# Altium footprint library Ale.PcbLib: 181 footprints (part 7 of 12)
Each footprint in its own frame and in the unit in brackets; x right, y up, seen from the top. Pads: shape width x height; smd on the part's side, far side on the other; paste and mask are expansions set on the pad; w line width, h text height; cw(c..) or ccw(c..) is an arc to the next point about the centre after c.
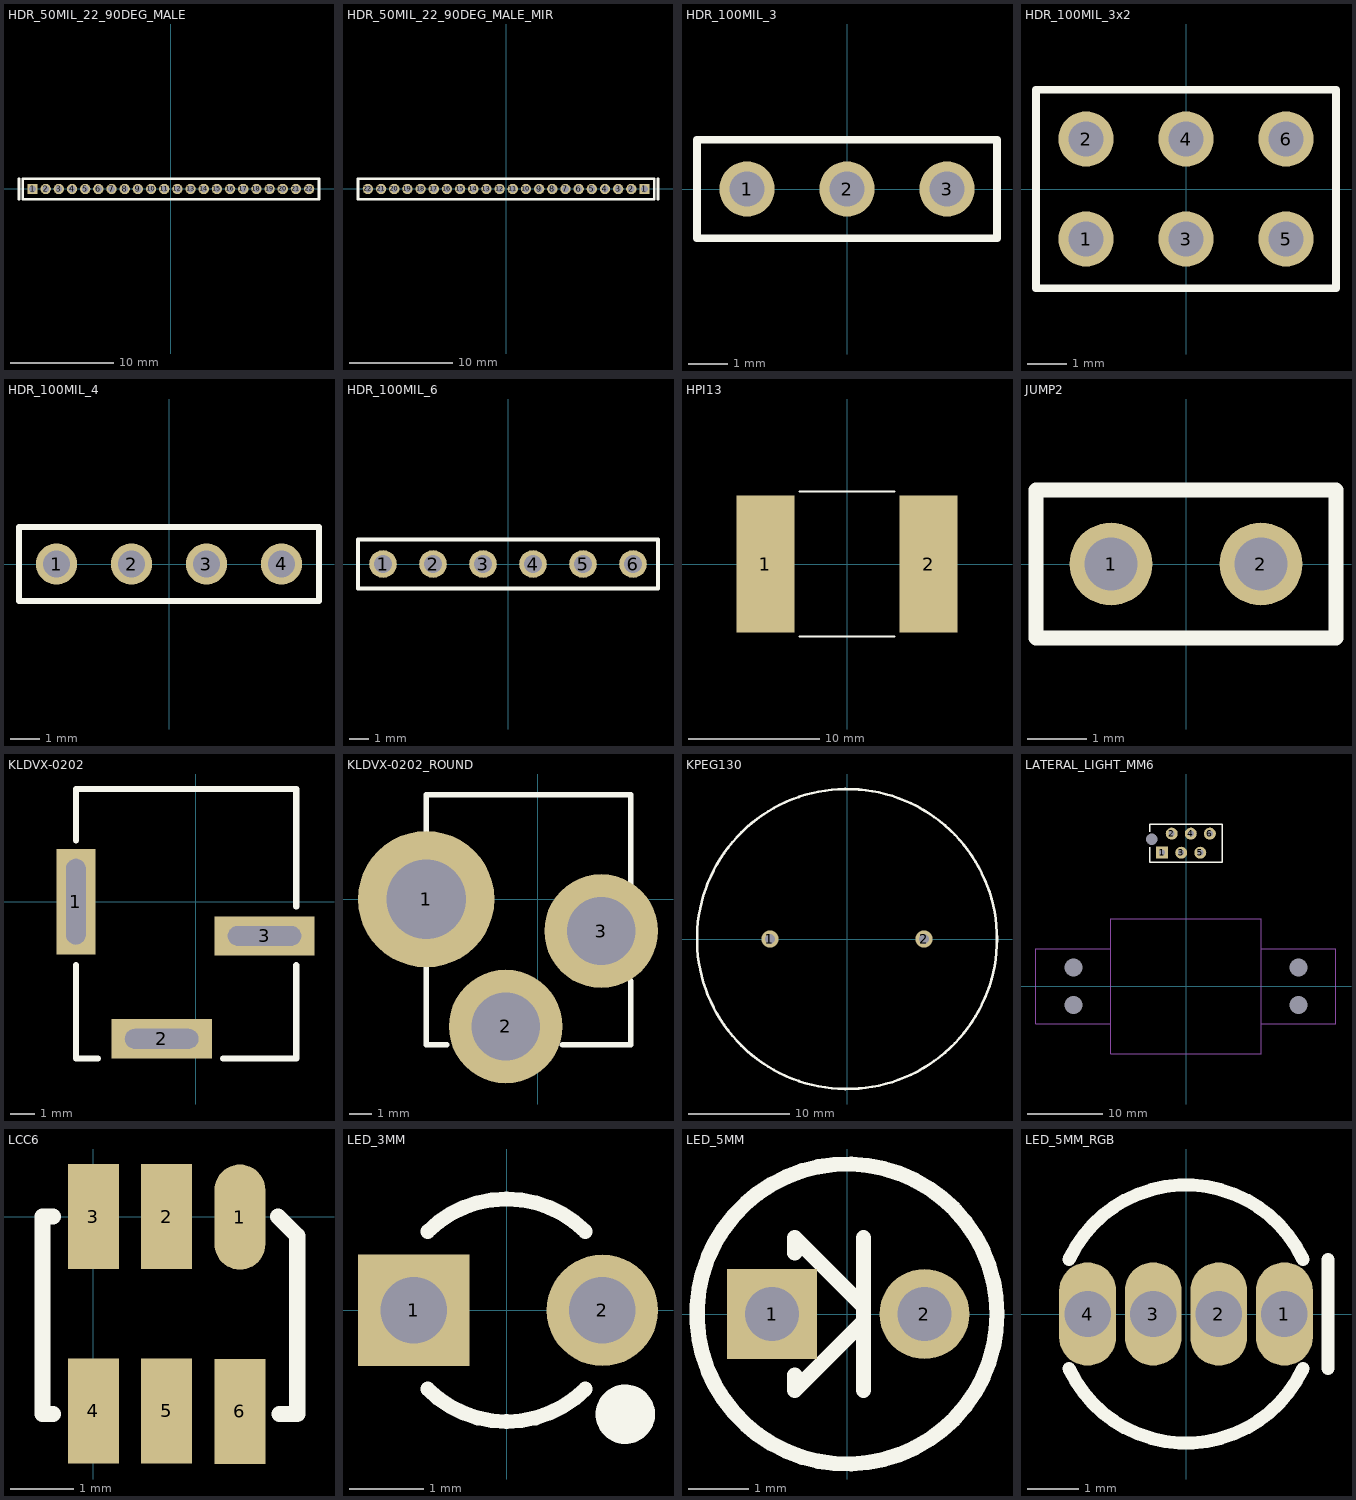
[diagram p6: the footprints below, top view; thin cyan lines are the x and y axes]

## HDR_50MIL_22_90DEG_MALE [mm] "1.27 mm pitch header"
height 2.2
pads (22):
  rect 1x1 hole 0.65: 1(-13.335,0)
  round 1 hole 0.65: 2(-12.065,0) 3(-10.795,0) 4(-9.525,0) 5(-8.255,0) 6(-6.985,0) 7(-5.715,0) 8(-4.445,0) 9(-3.175,0) 10(-1.905,0) 11(-0.635,0) 12(0.635,0) 13(1.905,0) 14(3.175,0) 15(4.445,0) 16(5.715,0) 17(6.985,0) 18(8.255,0) 19(9.525,0) 20(10.795,0) 21(12.065,0) 22(13.335,0)
Top Overlay:
  lines w0.25: -14.64,-1 -14.64,1 ; -14.29,-1 14.29,-1 14.29,1 -14.29,1 -14.29,-1
3D body: height 1.3, standoff 0.89, extent -13.54,3.4 -13.13,6.4
3D body: height 1.3, standoff 0.89, extent -12.27,3.4 -11.86,6.4
3D body: height 1.3, standoff 0.89, extent -11,3.4 -10.59,6.4
3D body: height 1.3, standoff 0.89, extent -9.73,3.4 -9.32,6.4
3D body: height 1.3, standoff 0.89, extent -8.46,3.4 -8.05,6.4
3D body: height 1.3, standoff 0.89, extent -7.19,3.4 -6.78,6.4
3D body: height 1.3, standoff 0.89, extent -5.92,3.4 -5.51,6.4
3D body: height 1.3, standoff 0.89, extent -4.65,3.4 -4.24,6.4
3D body: height 1.3, standoff 0.89, extent -3.38,3.4 -2.97,6.4
3D body: height 1.3, standoff 0.89, extent -2.11,3.4 -1.7,6.4
3D body: height 1.3, standoff 0.89, extent -0.84,3.4 -0.43,6.4
3D body: height 1.3, standoff 0.89, extent 13.13,3.4 13.54,6.4
3D body: height 1.3, standoff 0.89, extent 11.86,3.4 12.27,6.4
3D body: height 1.3, standoff 0.89, extent 10.59,3.4 11,6.4
3D body: height 1.3, standoff 0.89, extent 8.05,3.4 8.46,6.4
3D body: height 1.3, standoff 0.89, extent 9.32,3.4 9.73,6.4
3D body: height 1.3, standoff 0.89, extent 6.78,3.4 7.19,6.4
3D body: height 1.3, standoff 0.89, extent 5.51,3.4 5.92,6.4
3D body: height 1.3, standoff 0.89, extent 4.24,3.4 4.65,6.4
3D body: height 1.3, standoff 0.89, extent 2.97,3.4 3.38,6.4
3D body: height 1.3, standoff 0.89, extent 1.7,3.4 2.11,6.4
3D body: height 1.3, standoff 0.89, extent 0.43,3.4 0.84,6.4
3D body: height 2.2, standoff 0, extent -14.3,1.2 14.3,3.4

## HDR_50MIL_22_90DEG_MALE_MIR [mm] "1.27 mm pitch header"
height 2.2
pads (22):
  rect 1x1 hole 0.65: 1(13.335,0)
  round 1 hole 0.65: 2(12.065,0) 3(10.795,0) 4(9.525,0) 5(8.255,0) 6(6.985,0) 7(5.715,0) 8(4.445,0) 9(3.175,0) 10(1.905,0) 11(0.635,0) 12(-0.635,0) 13(-1.905,0) 14(-3.175,0) 15(-4.445,0) 16(-5.715,0) 17(-6.985,0) 18(-8.255,0) 19(-9.525,0) 20(-10.795,0) 21(-12.065,0) 22(-13.335,0)
Top Overlay:
  lines w0.25: 14.64,-1 14.64,1 ; -14.29,-1 14.29,-1 14.29,1 -14.29,1 -14.29,-1
3D body: height 1.3, standoff 0.89, extent -13.54,3.4 -13.13,6.4
3D body: height 1.3, standoff 0.89, extent -12.27,3.4 -11.86,6.4
3D body: height 1.3, standoff 0.89, extent -11,3.4 -10.59,6.4
3D body: height 1.3, standoff 0.89, extent -9.73,3.4 -9.32,6.4
3D body: height 1.3, standoff 0.89, extent -8.46,3.4 -8.05,6.4
3D body: height 1.3, standoff 0.89, extent -7.19,3.4 -6.78,6.4
3D body: height 1.3, standoff 0.89, extent -5.92,3.4 -5.51,6.4
3D body: height 1.3, standoff 0.89, extent -4.65,3.4 -4.24,6.4
3D body: height 1.3, standoff 0.89, extent -3.38,3.4 -2.97,6.4
3D body: height 1.3, standoff 0.89, extent -2.11,3.4 -1.7,6.4
3D body: height 1.3, standoff 0.89, extent -0.84,3.4 -0.43,6.4
3D body: height 1.3, standoff 0.89, extent 13.13,3.4 13.54,6.4
3D body: height 1.3, standoff 0.89, extent 11.86,3.4 12.27,6.4
3D body: height 1.3, standoff 0.89, extent 10.59,3.4 11,6.4
3D body: height 1.3, standoff 0.89, extent 8.05,3.4 8.46,6.4
3D body: height 1.3, standoff 0.89, extent 9.32,3.4 9.73,6.4
3D body: height 1.3, standoff 0.89, extent 6.78,3.4 7.19,6.4
3D body: height 1.3, standoff 0.89, extent 5.51,3.4 5.92,6.4
3D body: height 1.3, standoff 0.89, extent 4.24,3.4 4.65,6.4
3D body: height 1.3, standoff 0.89, extent 2.97,3.4 3.38,6.4
3D body: height 1.3, standoff 0.89, extent 1.7,3.4 2.11,6.4
3D body: height 1.3, standoff 0.89, extent 0.43,3.4 0.84,6.4
3D body: height 2.2, standoff 0, extent -14.3,1.2 14.3,3.4

## HDR_100MIL_3 [mm] "2.54 mm pitch header, 3-pin"
height 8.6
pads (3):
  round 1.4 hole 0.9: 1(-2.54,0) 2(0,0) 3(2.54,0)
Top Overlay:
  lines w0.2: -3.81,-1.25 -3.81,1.25 3.81,1.25 3.81,-1.25 -3.81,-1.25
3D body: height 8.6, standoff 0, extent -0.317,-0.317 0.317,0.317
3D body: height 8.6, standoff 0, extent -2.857,-0.317 -2.223,0.317
3D body: height 2.8, standoff 0, extent -3.81,-1.249 3.81,1.249
3D body: height 8.6, standoff 0, extent 2.223,-0.317 2.857,0.317

## HDR_100MIL_3x2 [mm] "2.54 mm pitch header, 6-pin"
height 8.6
pads (6):
  round 1.4 hole 0.9: 1(-2.54,-1.27) 2(-2.54,1.27) 3(0,-1.27) 4(0,1.27) 5(2.54,-1.27) 6(2.54,1.27)
Top Overlay:
  lines w0.2: -3.81,-2.52 -3.81,2.52 3.81,2.52 3.81,-2.52 -3.81,-2.52
3D body: height 8.6, standoff 0, extent -0.317,0.953 0.317,1.587
3D body: height 8.6, standoff 0, extent -2.857,0.953 -2.223,1.587
3D body: height 8.6, standoff 0, extent 2.223,0.953 2.857,1.587
3D body: height 8.6, standoff 0, extent 2.223,-1.587 2.857,-0.953
3D body: height 8.6, standoff 0, extent -2.857,-1.587 -2.223,-0.953
3D body: height 8.6, standoff 0, extent -0.317,-1.587 0.317,-0.953
3D body: height 2.8, standoff 0, extent -3.81,-2.5 3.81,2.5

## HDR_100MIL_4 [mm] "2.54 mm pitch header, 4-pin"
height 8.6
pads (4):
  round 1.4 hole 0.9: 1(-3.81,0) 2(-1.27,0) 3(1.27,0) 4(3.81,0)
Top Overlay:
  lines w0.2: -5.08,-1.25 -5.08,1.25 5.08,1.25 5.08,-1.25 -5.08,-1.25
3D body: height 8.6, standoff 0, extent 3.493,-0.317 4.127,0.317
3D body: height 8.6, standoff 0, extent -1.587,-0.317 -0.953,0.317
3D body: height 8.6, standoff 0, extent -4.127,-0.317 -3.493,0.317
3D body: height 2.8, standoff 0, extent -5.08,-1.249 5.08,1.249
3D body: height 8.6, standoff 0, extent 0.953,-0.317 1.587,0.317

## HDR_100MIL_6 [mm] "2.54 mm pitch header, 6-pin"
height 8.6
pads (6):
  round 1.4 hole 0.9: 1(-6.35,0) 2(-3.81,0) 3(-1.27,0) 4(1.27,0) 5(3.81,0) 6(6.35,0)
Top Overlay:
  lines w0.2: -7.62,-1.25 -7.62,1.25 7.62,1.25 7.62,-1.25 -7.62,-1.25
3D body: height 8.6, standoff 0, extent 6.033,-0.317 6.667,0.317
3D body: height 8.6, standoff 0, extent 3.493,-0.317 4.127,0.317
3D body: height 8.6, standoff 0, extent -4.127,-0.317 -3.493,0.317
3D body: height 8.6, standoff 0, extent -6.667,-0.317 -6.033,0.317
3D body: height 2.8, standoff 0, extent -7.62,-1.249 7.62,1.249
3D body: height 8.6, standoff 0, extent 0.953,-0.317 1.587,0.317
3D body: height 8.6, standoff 0, extent -1.587,-0.317 -0.953,0.317

## HPI13 [mm] "Epcos HPI 13 Inductor Series"
height 5.95
pads (2):
  rect 4.4x10.4 smd: 1(-6.2,0) 2(6.2,0)
Top Overlay:
  lines w0.15: -3.6,-5.5 3.6,-5.5 ; -3.6,5.5 3.6,5.5
3D body: height 4.95, standoff 0, extent -6.55,-5.5 6.55,5.5

## JUMP2 [mm] "Jumper, 2.54 mm pitch"
height 8.6
pads (2):
  round 1.4 hole 0.9: 1(-1.27,0) 2(1.27,0)
Top Overlay:
  lines w0.254: -2.54,-1.25 2.54,-1.25 2.54,1.25 -2.54,1.25 -2.54,-1.25
3D body: height 8.6, standoff 0, extent -1.587,-0.317 -0.953,0.317
3D body: height 8.6, standoff 0, extent 0.953,-0.317 1.587,0.317
3D body: height 2.8, standoff 0, extent -2.539,-1.249 2.539,1.249

## KLDVX-0202 [mm] "Power jack, vertical orientation"
height 13.4
pads (3):
  rect 1.6x4.3 hole 0.8 slot 3.5 at 90 deg: 1(-4.9,0)
  rect 4.1x1.6 hole 0.8 slot 3 at 0 deg: 2(-1.4,-5.6) 3(2.8,-1.4)
Top Overlay:
  lines w0.254: -4.9,-2.6 -4.9,-6.4 -4,-6.4 ; -4.9,2.5 -4.9,4.6 4.1,4.6 4.1,-0.2 ; 1.1,-6.4 4.1,-6.4 4.1,-2.6
3D body: height 13.4, standoff 0, extent -4.899,-6.399 4.099,4.599

## KLDVX-0202_ROUND [mm] "Power jack, vertical orientation, round holes only"
height 13.4
pads (3):
  round 6 hole 3.5: 1(-4.9,0)
  round 5 hole 3: 2(-1.4,-5.6) 3(2.8,-1.4)
Top Overlay:
  lines w0.254: -4.9,-2.6 -4.9,-6.4 -4,-6.4 ; -4.9,2.5 -4.9,4.6 4.1,4.6 4.1,-0.2 ; 1.1,-6.4 4.1,-6.4 4.1,-3.6
3D body: height 13.4, standoff 0, extent -4.899,-6.399 4.099,4.599

## KPEG130 [mm] "Kingstate KPEG130 piezo"
height 7.5
pads (2):
  round 1.7 hole 1: 1(-7.6,0) 2(7.6,0)
Top Overlay:
  circle w0.254: c0,0 r14.8
3D body: height 7.5, standoff 0, extent -14.799,-14.799 14.799,14.799

## LATERAL_LIGHT_MM6 [mm] "MicroMatch 6 and mechanical fixation for ant lateral light boards"
height 4.1
pads (11):
  round 0 hole 2.4: 0(-15,-2.5) 0(-15,2.5) 0(15,-2.5) 0(15,2.5)
  round 0 hole 1.5: 0(-4.575,19.63)
  rect 1.6x1.6 hole 0.8: 1(-3.175,17.83)
  round 1.6 hole 0.8: 2(-1.905,20.37) 3(-0.635,17.83) 4(0.635,20.37) 5(1.905,17.83) 6(3.175,20.37)
Top Overlay:
  lines w0.2: -4.85,18.55 -4.85,16.55 4.85,16.55 4.85,21.65 -4.85,21.65 -4.85,20.65
Mechanical 15:
  lines w0.1: -10,-5 -20,-5 -20,5 -10,5 ; -10,-9 -10,9 10,9 10,-9 -10,-9 ; 10,-5 10,5 20,5 20,-5 10,-5
3D body: height 8, standoff 0, extent 10.001,-4.999 19.999,4.999
3D body: height 8, standoff 0, extent -9.999,-8.999 9.999,8.999
3D body: height 8, standoff 0, extent -19.999,-4.999 -10.001,4.999
3D body: height 4.1, standoff 0, extent -4.85,16.55 4.85,21.65

## LCC6 [mm] "RGB LED"
height 2
pads (6):
  oval 0.8x1.65 smd: 1(2.3,-0.008)
  rect 0.8x1.65 smd: 2(1.15,0) 3(0,0) 4(0,-3.05) 5(1.15,-3.05) 6(2.3,-3.058)
Top Overlay:
  lines w0.254: -0.635,-3.1 -0.8,-3.1 -0.8,0 -0.635,0 ; 2.9,0 3.2,-0.3 3.2,-0.6 3.2,-3.1 2.921,-3.1

## LED_3MM [mm] "3 mm LED (T-1), 2.54 mm pitch"
height 4.6
pads (2):
  rect 1.5x1.5 hole 0.9: 1(-1.25,0)
  round 1.5 hole 0.9: 2(1.29,0)
Top Overlay:
  circle w0.4: c1.6,-1.4 r0.2
  lines w0.2: -1.061,-1.061 ccw(c0,0) 1.061,-1.061 ; -1.061,1.061 cw(c0,0) 1.061,1.061
3D body: height 1, standoff 0, extent -1.6,-1.598 1.6,1.6
3D body: height 4.65, standoff 1.75, extent -1.448,-1.45 1.449,1.45
3D body: height 3.2, standoff 1, extent -1.45,-1.448 1.449,1.45

## LED_5MM [mm] "5 mm LED, 2.54 mm pitch"
height 9.7
pads (2):
  rect 1.5x1.5 hole 0.9: 1(-1.25,0)
  round 1.5 hole 0.9: 2(1.29,0)
Top Overlay:
  circle w0.254: c0,0 r2.5
  lines w0.254: -0.869,-1.016 -0.869,-1.27 0.274,-0.127 0.274,0.127 -0.869,1.27 -0.869,1.016 ; 0.274,-1.27 0.274,1.27
3D body: height 6.2, standoff 0, extent -2.495,-2.48 2.495,2.5
3D body: height 8.7, standoff 3.7, extent -2.474,-2.489 2.5,2.489

## LED_5MM_RGB [mm] "5 mm RGB LED, 1.27 mm pitch"
height 8.6
pads (4):
  oval 1.1x2 hole 0.9: 1(1.905,0) 2(0.635,0) 3(-0.635,0) 4(-1.905,0)
Top Overlay:
  lines w0.254: -2.266,-1.057 ccw(c0,0) 2.266,-1.057 ; -2.266,1.057 cw(c0,0) 2.266,1.057 ; 2.748,-1.057 2.748,1.057
3D body: height 8.7, standoff 3.7, extent -2.474,-2.489 2.5,2.489
3D body: height 6.2, standoff 0, extent -2.495,-2.48 2.495,2.5